# Altium footprint library HCPL-0930.PcbLib: 1 footprints
Each footprint in its own frame and in the unit in brackets; x right, y up, seen from the top. Pads: shape width x height; smd on the part's side, far side on the other; paste and mask are expansions set on the pad; w line width, h text height; cw(c..) or ccw(c..) is an arc to the next point about the centre after c.
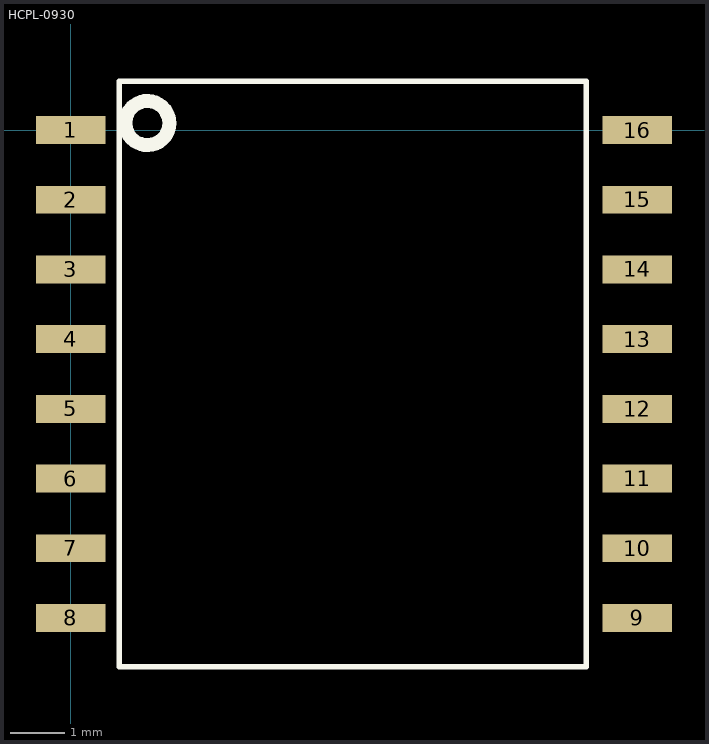
[diagram p0: the footprint, top view; thin cyan lines are the x and y axes]

## HCPL-0930 [mil]
pads (16):
  rect 50x20 smd: 1(0,0) 2(0,-50) 3(0,-100) 4(0,-150) 5(0,-200) 6(0,-250) 7(0,-300) 8(0,-350) 9(406.5,-350) 10(406.5,-300) 11(406.5,-250) 12(406.5,-200) 13(406.5,-150) 14(406.5,-100) 15(406.5,-50) 16(406.5,0)
Top Overlay:
  circle w10: c55,5 r15.81
  lines w3.94: 35,-385 35,35 370,35 370,-385 35,-385
3D body: height 12.01, standoff 0, extent 370,-365 420,-335
3D body: height 12.01, standoff 0, extent 370,-315 420,-285
3D body: height 12.01, standoff 0, extent 370,-265 420,-235
3D body: height 12.01, standoff 0, extent 370,-215 420,-185
3D body: height 12.01, standoff 0, extent 370,-165 420,-135
3D body: height 12.01, standoff 0, extent 375,-115 425,-85
3D body: height 12.01, standoff 0, extent 370,-65 420,-35
3D body: height 12.01, standoff 0, extent 370,-15 420,15
3D body: height 12.01, standoff 0, extent -15,-365 35,-335
3D body: height 12.01, standoff 0, extent -15,-315 35,-285
3D body: height 12.01, standoff 0, extent -15,-265 35,-235
3D body: height 12.01, standoff 0, extent -15,-215 35,-185
3D body: height 12.01, standoff 0, extent -15,-165 35,-135
3D body: height 12.01, standoff 0, extent -15,-115 32.5,-85
3D body: height 12.01, standoff 0, extent -15,-65 35,-35
3D body: height 12.01, standoff 0, extent -15,-15 35,15
3D body: height 90, standoff 0, extent 33.03,-386.97 371.97,36.97